# Altium footprint library Resistors_rus.PCBLIB: 80 footprints (part 2 of 5)
Each footprint in its own frame and in the unit in brackets; x right, y up, seen from the top. Pads: shape width x height; smd on the part's side, far side on the other; paste and mask are expansions set on the pad; w line width, h text height; cw(c..) or ccw(c..) is an arc to the next point about the centre after c.
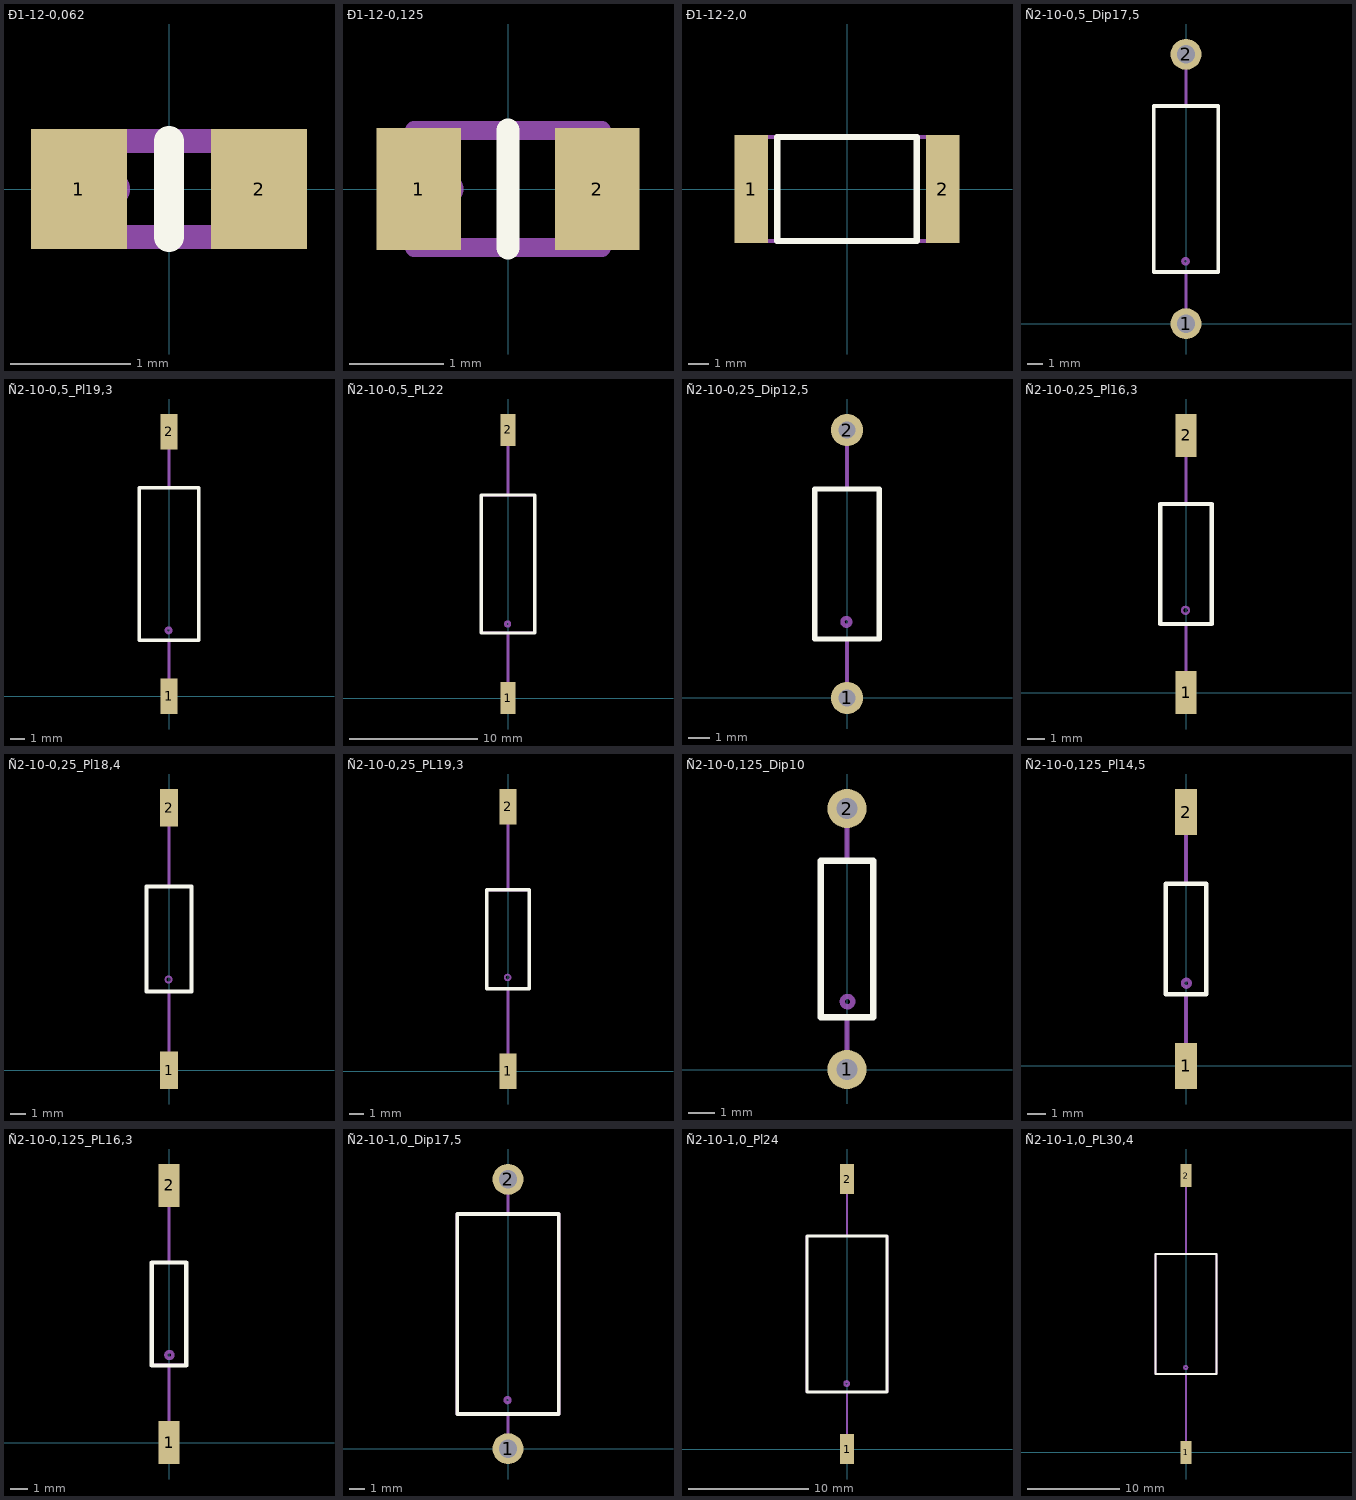
[diagram p1: the footprints below, top view; thin cyan lines are the x and y axes]

## Ð1-12-0,062 [mm]
pads (2):
  rect 0.8x1 smd: 1(-0.75,0) 2(0.75,0)
Top Overlay:
  lines w0.25: 0,-0.4 0,0.4
Mechanical 1:
  circle w0.1: c-0.475,0 r0.1
  lines w0.2: -0.8,-0.4 -0.8,0.4 0.8,0.4 0.8,-0.4 -0.8,-0.4
  text ".Designator" at -0.65,0.85 h1.5

## Ð1-12-0,125 [mm]
height 0.6
pads (2):
  rect 0.9x1.3 smd: 1(-0.95,0) 2(0.95,0)
Top Overlay:
  lines w0.25: 0,-0.625 0,0.625
Mechanical 1:
  circle w0.1: c-0.625,0 r0.1
  lines w0.2: -1,-0.625 1,-0.625 1,0.625 -1,0.625 -1,-0.625
  text ".Designator" at -0.9,1.1 h1.5
3D body: height 0.6, standoff 0, extent -1.1,-0.725 1.1,0.725

## Ð1-12-2,0 [mm]
height 5.15
pads (2):
  rect 1.6x5.2 smd: 1(-4.6,0) 2(4.6,0)
Top Overlay:
  lines w0.3: -3.35,-2.5 3.35,-2.5 3.35,2.5 -3.35,2.5 -3.35,-2.5
Mechanical 1:
  circle w0.1: c-4.225,0 r0.1
  lines w0.2: -5,-2.5 -5,2.5 5,2.5 5,-2.5 -5,-2.5
  text ".Designator" at -1.65,-0.4 h1.5
3D body: height 0.9, standoff 0, extent -5.1,-2.575 5.1,2.575

## Ñ2-10-0,5_Dip17,5 [mm]
pads (2):
  round 2 hole 1.2: 1(0,0) 2(0,17.5)
Top Overlay:
  lines w0.25: -2.1,3.35 2.1,3.35 2.1,14.15 -2.1,14.15 -2.1,3.35
Mechanical 1:
  circle w0.2: c-0.03,4.05 r0.18
  lines w0.2: 0,0 0,3.35 ; 0,14.15 0,17.5 ; -2.1,3.35 2.1,3.35 2.1,14.15 -2.1,14.15 -2.1,3.35
  text ".Designator" at 0.4,7.1 h1.5
3D body: height 4.2, standoff -3, extent -2.103,-0.403 2.097,17.897

## Ñ2-10-0,5_Pl19,3 [mm]
pads (2):
  rect 1.2x2.5 smd: 1(0,0) 2(0,18.75)
Top Overlay:
  lines w0.25: -2.1,3.975 2.1,3.975 2.1,14.775 -2.1,14.775 -2.1,3.975
Mechanical 1:
  circle w0.2: c-0.03,4.675 r0.18
  lines w0.2: 0,-0.275 0,3.975 ; 0,14.775 0,19.025 ; -2.1,3.975 2.1,3.975 2.1,14.775 -2.1,14.775 -2.1,3.975
  text ".Designator" at 0.4,7.35 h1.5
3D body: height 4.2, standoff 0, extent -2.1,-0.275 2.1,19.025

## Ñ2-10-0,5_PL22 [mm]
pads (2):
  rect 1.2x2.5 smd: 1(0,0) 2(0,21)
Top Overlay:
  lines w0.25: -2.1,5.1 -2.1,15.9 2.1,15.9 2.1,5.1 -2.1,5.1
Mechanical 1:
  circle w0.2: c-0.03,5.8 r0.18
  lines w0.2: 0,-0.5 0,5.1 ; 0,15.9 0,21.5 ; -2.1,5.1 -2.1,15.9 2.1,15.9 2.1,5.1 -2.1,5.1
  text ".Designator" at 0.4,8.6 h1.5
3D body: height 4.2, standoff 0, extent -2.101,-0.498 2.099,21.502

## Ñ2-10-0,25_Dip12,5 [mm]
pads (2):
  round 1.5 hole 0.8: 1(0,0) 2(0,12.5)
Top Overlay:
  lines w0.25: -1.5,2.75 -1.5,9.75 1.5,9.75 1.5,2.75 -1.5,2.75
Mechanical 1:
  circle w0.2: c-0.03,3.55 r0.18
  lines w0.2: 0,0 0,2.75 ; 0,9.75 0,12.5 ; -1.5,2.75 -1.5,9.75 1.5,9.75 1.5,2.75 -1.5,2.75
  text ".Designator" at 0.4,4.85 h1.5
3D body: height 3, standoff -3, extent -1.5,-0.3 1.5,12.8

## Ñ2-10-0,25_Pl16,3 [mm]
pads (2):
  rect 1.2x2.5 smd: 1(0,0) 2(0,15)
Top Overlay:
  lines w0.25: -1.5,4 1.5,4 1.5,11 -1.5,11 -1.5,4
Mechanical 1:
  circle w0.13: c-0.03,4.8 r0.2
  lines w0.2: 0,-0.65 0,4 ; 0,11 0,15.65 ; -1.5,4 1.5,4 1.5,11 -1.5,11 -1.5,4
  text ".Designator" at 0.4,6.1 h1.5
3D body: height 3, standoff 0, extent -1.499,-0.649 1.501,15.651

## Ñ2-10-0,25_Pl18,4 [mm]
pads (2):
  rect 1.2x2.5 smd: 1(0,0) 2(0,17.5)
Top Overlay:
  lines w0.25: -1.5,5.25 -1.5,12.25 1.5,12.25 1.5,5.25 -1.5,5.25
Mechanical 1:
  circle w0.13: c-0.03,6.05 r0.2
  lines w0.2: 0,-0.45 0,5.25 ; 0,12.25 0,17.95 ; -1.5,5.25 -1.5,12.25 1.5,12.25 1.5,5.25 -1.5,5.25
  text ".Designator" at 0.4,7.35 h1.5
3D body: height 3, standoff 0, extent -1.494,-0.451 1.506,17.949

## Ñ2-10-0,25_PL19,3 [mm]
pads (2):
  rect 1.2x2.5 smd: 1(0,0) 2(0,18.75)
Top Overlay:
  lines w0.25: -1.5,5.852 1.5,5.852 1.5,12.852 -1.5,12.852 -1.5,5.852
Mechanical 1:
  circle w0.13: c-0.03,6.652 r0.2
  lines w0.2: 0,-0.298 0,5.852 ; 0,12.852 0,19.002 ; -1.5,5.852 1.5,5.852 1.5,12.852 -1.5,12.852 -1.5,5.852
  text ".Designator" at 0.4,8.1 h1.5
3D body: height 3, standoff 0, extent -1.5,-0.275 1.5,19.025

## Ñ2-10-0,125_Dip10 [mm]
pads (2):
  round 1.5 hole 0.8: 1(0,0.005) 2(0,10.005)
Top Overlay:
  lines w0.25: -1,2 1,2 1,8 -1,8 -1,2
Mechanical 1:
  circle w0.2: c0.02,2.605 r0.2
  lines w0.2: -1,8 -1,2.005 1,2.005 1,8 ; -1,8.005 1,8.005 ; 0,0.005 0,2 ; 0,8 0,10.005
  text ".Designator" at 0.4,3.6 h1.5
3D body: height 2, standoff -3, extent -1,-0.3 1,10.3

## Ñ2-10-0,125_Pl14,5 [mm]
pads (2):
  rect 1.2x2.5 smd: 1(0,0) 2(0,13.75)
Top Overlay:
  lines w0.25: -1.1,3.875 -1.1,9.875 1.1,9.875 1.1,3.875 -1.1,3.875
Mechanical 1:
  circle w0.2: c0.02,4.48 r0.2
  lines w0.2: 0,-0.375 0,3.875 ; 0,10 0,14.125 ; -1.1,3.875 -1.1,9.875 1.1,9.875 1.1,3.875 -1.1,3.875
  text ".Designator" at 0.4,5.35 h1.5
3D body: height 2, standoff -0.3, extent -1,-0.375 1,14.125

## Ñ2-10-0,125_PL16,3 [mm]
pads (2):
  rect 1.2x2.5 smd: 1(0,0) 2(0,15)
Top Overlay:
  lines w0.25: -1,4.5 1,4.5 1,10.5 -1,10.5 -1,4.5
Mechanical 1:
  circle w0.2: c0.02,5.105 r0.2
  lines w0.2: -1,4.5 -1,10.5 ; -1,4.505 1,4.505 ; -1,10.505 1,10.505 ; 0,-0.65 0,4.5 ; 0,10.5 0,15.65 ; 1,4.5 1,10.5
  text ".Designator" at 0.4,6.1 h1.5
3D body: height 2, standoff -0.3, extent -1,-0.65 1,15.65

## Ñ2-10-1,0_Dip17,5 [mm]
pads (2):
  round 2 hole 1.2: 1(0,0) 2(0,17.5)
Top Overlay:
  lines w0.25: -3.3,2.25 3.3,2.25 3.3,15.25 -3.3,15.25 -3.3,2.25
Mechanical 1:
  circle w0.2: c-0.03,3.15 r0.17
  lines w0.2: 0,0 0,2.25 ; 0,15.25 0,17.5 ; -3.3,2.25 3.3,2.25 3.3,15.25 -3.3,15.25 -3.3,2.25
  text ".Designator" at 0.4,7.6 h1.5
3D body: height 6.6, standoff -3, extent -3.3,-0.4 3.3,17.9

## Ñ2-10-1,0_Pl24 [mm]
pads (2):
  rect 1.2x2.5 smd: 1(0,0) 2(0,22.5)
Top Overlay:
  lines w0.25: -3.35,4.75 -3.35,17.75 3.35,17.75 3.35,4.75 -3.35,4.75
Mechanical 1:
  circle w0.2: c-0.03,5.45 r0.18
  lines w0.2: 0,-0.75 0,4.75 ; 0,17.75 0,23.25 ; -3.35,4.75 -3.35,17.75 3.35,17.75 3.35,4.75 -3.35,4.75
  text ".Designator" at 0.4,10.1 h1.5
3D body: height 6.6, standoff 0, extent -3.3,-0.75 3.3,23.25

## Ñ2-10-1,0_PL30,4 [mm]
pads (2):
  rect 1.2x2.5 smd: 1(0,0) 2(0,30)
Top Overlay:
  lines w0.25: -3.3,8.5 -3.3,21.5 3.3,21.5 3.3,8.5 -3.3,8.5
Mechanical 1:
  circle w0.2: c-0.03,9.2 r0.18
  lines w0.2: 0,-0.2 0,8.5 ; 0,21.5 0,30.2 ; -3.3,8.5 -3.3,21.5 3.3,21.5 3.3,8.5 -3.3,8.5
  text ".Designator" at 0.4,13.6 h1.5
3D body: height 6.6, standoff 0, extent -3.3,-0.2 3.3,30.2